# Altium footprint library SR PCB Library V01.PcbLib: 402 footprints (part 9 of 26)
Each footprint in its own frame and in the unit in brackets; x right, y up, seen from the top. Pads: shape width x height; smd on the part's side, far side on the other; paste and mask are expansions set on the pad; w line width, h text height; cw(c..) or ccw(c..) is an arc to the next point about the centre after c.
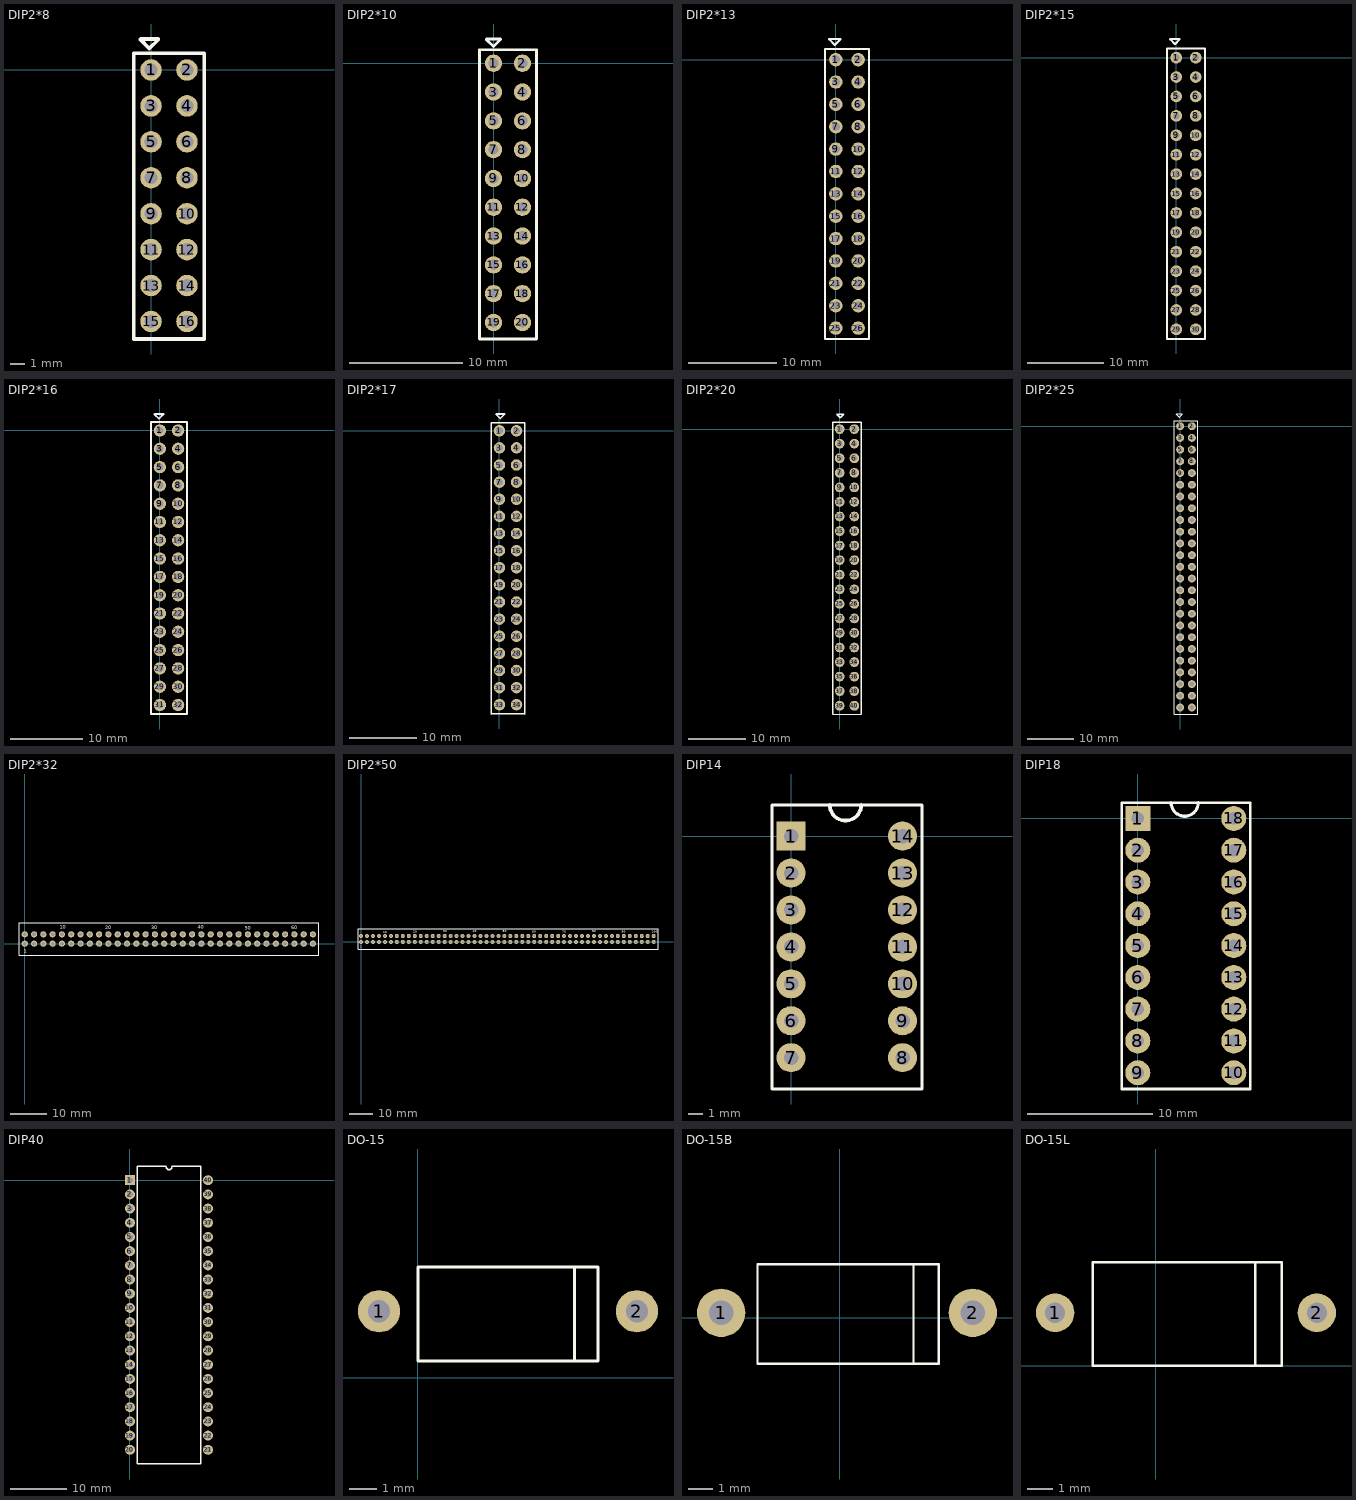
[diagram p8: the footprints below, top view; thin cyan lines are the x and y axes]

## DIP2*8 [mil]
pads (16):
  round 60 hole 35.43: 1(0,0) 2(100,0) 3(0,-100) 4(100,-100) 5(0,-200) 6(100,-200) 8(100,-300) 9(0,-400) 10(100,-400) 11(0,-500) 12(100,-500) 13(0,-600) 14(100,-600) 15(0,-700) 16(100,-700)
  round 60 hole 35.43 mask+4: 7(0,-300)
Top Overlay:
  lines w10: -48.43,-748.82 -48.43,46.85 148.43,46.85 148.43,-748.82 -48.43,-748.82 ; -29.53,84.65 -4.68,59.8 19.69,84.17 19.69,86.17 -28.01,86.17 -29.53,84.65

## DIP2*10 [mil]
pads (20):
  round 60 hole 35.43: 1(0,0) 2(100,0) 3(0,-100) 4(100,-100) 5(0,-200) 6(100,-200) 8(100,-300) 9(0,-400) 10(100,-400) 11(0,-500) 12(100,-500) 13(0,-600) 14(100,-600) 15(0,-700) 16(100,-700) 17(0,-800) 18(100,-800) 19(0,-900) 20(100,-900)
  round 60 hole 35.43 mask+4: 7(0,-300)
Top Overlay:
  lines w10: -48.43,-957.48 -48.43,46.85 148.43,46.85 148.43,-957.48 -48.43,-957.48 ; -25.59,82.68 -24.07,84.2 23.62,84.2 23.62,82.2 -0.75,57.83 -25.59,82.68

## DIP2*13 [mil]
pads (26):
  round 60 hole 35.43: 1(0,0) 2(100,0) 3(0,-100) 4(100,-100) 5(0,-200) 6(100,-200) 8(100,-300) 9(0,-400) 10(100,-400) 11(0,-500) 12(100,-500) 13(0,-600) 14(100,-600) 15(0,-700) 16(100,-700) 17(0,-800) 18(100,-800) 19(0,-900) 20(100,-900) 21(0,-1000) 22(100,-1000) 23(0,-1100) 24(100,-1100) 25(0,-1200) 26(100,-1200)
  round 60 hole 35.43 mask+4: 7(0,-300)
Top Overlay:
  lines w10: -48.43,-1248.82 -48.43,46.85 148.43,46.85 148.43,-1248.82 -48.43,-1248.82 ; -29.53,90.55 -28.01,92.07 19.69,92.07 19.69,90.08 -4.68,65.71 -29.53,90.55

## DIP2*15 [mil]
pads (30):
  round 60 hole 35.43: 1(0,0) 2(100,0) 3(0,-100) 4(100,-100) 5(0,-200) 6(100,-200) 8(100,-300) 9(0,-400) 10(100,-400) 11(0,-500) 12(100,-500) 13(0,-600) 14(100,-600) 15(0,-700) 16(100,-700) 17(0,-800) 18(100,-800) 19(0,-900) 20(100,-900) 21(0,-1000) 22(100,-1000) 23(0,-1100) 24(100,-1100) 25(0,-1200) 26(100,-1200) 27(0,-1300) 28(100,-1300) 29(0,-1400) 30(100,-1400)
  round 60 hole 35.43 mask+4: 7(0,-300)
Top Overlay:
  lines w10: -48.43,-1449.61 148.43,-1449.61 148.43,46.85 -48.43,46.85 -48.43,-1449.61 ; -31.5,94.49 -29.98,96.01 17.72,96.01 17.72,94.02 -6.65,69.65 -31.5,94.49

## DIP2*16 [mm]
pads (32):
  round 1.7 hole 1.016: 1(0,0) 2(2.54,0) 3(0,-2.54) 4(2.54,-2.54) 5(0,-5.08) 6(2.54,-5.08) 7(0,-7.62) 8(2.54,-7.62) 9(0,-10.16) 10(2.54,-10.16) 11(0,-12.7) 12(2.54,-12.7) 13(0,-15.24) 14(2.54,-15.24) 15(0,-17.78) 16(2.54,-17.78) 17(0,-20.32) 18(2.54,-20.32) 19(0,-22.86) 20(2.54,-22.86) 21(0,-25.4) 22(2.54,-25.4) 23(0,-27.94) 24(2.54,-27.94) 25(0,-30.48) 26(2.54,-30.48) 27(0,-33.02) 28(2.54,-33.02) 29(0,-35.56) 30(2.54,-35.56) 31(0,-38.1) 32(2.54,-38.1)
Top Overlay:
  lines w0.254: -1.23,-39.35 -1.23,1.2 3.77,1.2 3.77,-39.35 -1.23,-39.35 ; -0.75,2.25 -0.119,1.619 0.5,2.238 0.5,2.289 -0.711,2.289 -0.75,2.25

## DIP2*17 [mm]
pads (34):
  round 1.7 hole 1.016: 1(0,0) 2(2.54,0) 3(0,-2.54) 4(2.54,-2.54) 5(0,-5.08) 6(2.54,-5.08) 7(0,-7.62) 8(2.54,-7.62) 9(0,-10.16) 10(2.54,-10.16) 11(0,-12.7) 12(2.54,-12.7) 13(0,-15.24) 14(2.54,-15.24) 15(0,-17.78) 16(2.54,-17.78) 17(0,-20.32) 18(2.54,-20.32) 19(0,-22.86) 20(2.54,-22.86) 21(0,-25.4) 22(2.54,-25.4) 23(0,-27.94) 24(2.54,-27.94) 25(0,-30.48) 26(2.54,-30.48) 27(0,-33.02) 28(2.54,-33.02) 29(0,-35.56) 30(2.54,-35.56) 31(0,-38.1) 32(2.54,-38.1) 33(0,-40.64) 34(2.54,-40.64)
Top Overlay:
  lines w0.2: -1.23,-42.02 3.71,-42.02
  lines w0.254: -1.23,-42.02 -1.23,1.19 3.77,1.19 3.77,-42.02 ; -0.5,2.45 -0.461,2.489 0.75,2.489 0.75,2.438 0.131,1.819 -0.5,2.45

## DIP2*20 [mm]
pads (40):
  round 1.7 hole 1.016: 1(0,0) 2(2.54,0) 3(0,-2.54) 4(2.54,-2.54) 5(0,-5.08) 6(2.54,-5.08) 7(0,-7.62) 8(2.54,-7.62) 9(0,-10.16) 10(2.54,-10.16) 11(0,-12.7) 12(2.54,-12.7) 13(0,-15.24) 14(2.54,-15.24) 15(0,-17.78) 16(2.54,-17.78) 17(0,-20.32) 18(2.54,-20.32) 19(0,-22.86) 20(2.54,-22.86) 21(0,-25.4) 22(2.54,-25.4) 23(0,-27.94) 24(2.54,-27.94) 25(0,-30.48) 26(2.54,-30.48) 27(0,-33.02) 28(2.54,-33.02) 29(0,-35.56) 30(2.54,-35.56) 31(0,-38.1) 32(2.54,-38.1) 33(0,-40.64) 34(2.54,-40.64) 35(0,-43.18) 36(2.54,-43.18) 37(0,-45.72) 38(2.54,-45.72) 39(0,-48.26) 40(2.54,-48.26)
Top Overlay:
  lines w0.2: -1.23,-49.7 3.77,-49.7
  lines w0.254: -1.23,-49.7 -1.23,1.19 3.77,1.19 3.77,-49.7 ; -0.55,2.6 -0.511,2.639 0.7,2.639 0.7,2.588 0.081,1.969 -0.55,2.6

## DIP2*25 [mm]
pads (50):
  round 1.7 hole 1.016: 1(0,0) 2(2.54,0) 3(0,-2.54) 4(2.54,-2.54) 5(0,-5.08) 6(2.54,-5.08) 7(0,-7.62) 8(2.54,-7.62) 9(0,-10.16) 10(2.54,-10.16) 11(0,-12.7) 12(2.54,-12.7) 13(0,-15.24) 14(2.54,-15.24) 15(0,-17.78) 16(2.54,-17.78) 17(0,-20.32) 18(2.54,-20.32) 19(0,-22.86) 20(2.54,-22.86) 21(0,-25.4) 22(2.54,-25.4) 23(0,-27.94) 24(2.54,-27.94) 25(0,-30.48) 26(2.54,-30.48) 27(0,-33.02) 28(2.54,-33.02) 29(0,-35.56) 30(2.54,-35.56) 31(0,-38.1) 32(2.54,-38.1) 33(0,-40.64) 34(2.54,-40.64) 35(0,-43.18) 36(2.54,-43.18) 37(0,-45.72) 38(2.54,-45.72) 39(0,-48.26) 40(2.54,-48.26) 41(0,-50.8) 42(2.54,-50.8) 43(0,-53.34) 44(2.54,-53.34) 45(0,-55.88) 46(2.54,-55.88) 47(0,-58.42) 48(2.54,-58.42) 49(0,-60.96) 50(2.54,-60.96)
Top Overlay:
  lines w0.2: -1.23,-62.36 3.77,-62.36
  lines w0.254: -1.23,-62.36 -1.23,1.19 3.77,1.19 3.77,-62.36 ; -0.8,2.6 -0.761,2.639 0.45,2.639 0.45,2.588 -0.169,1.969 -0.8,2.6

## DIP2*32 [mm]
pads (64):
  round 1.7 hole 1.016: 1(0,0) 2(0,2.54) 3(2.54,0) 4(2.54,2.54) 5(5.08,0) 6(5.08,2.54) 7(7.62,0) 8(7.62,2.54) 9(10.16,0) 10(10.16,2.54) 11(12.7,0) 12(12.7,2.54) 13(15.24,0) 14(15.24,2.54) 15(17.78,0) 16(17.78,2.54) 17(20.32,0) 18(20.32,2.54) 19(22.86,0) 20(22.86,2.54) 21(25.4,0) 22(25.4,2.54) 23(27.94,0) 24(27.94,2.54) 25(30.48,0) 26(30.48,2.54) 27(33.02,0) 28(33.02,2.54) 29(35.56,0) 30(35.56,2.54) 31(38.1,0) 32(38.1,2.54) 33(40.64,0) 34(40.64,2.54) 35(43.18,0) 36(43.18,2.54) 37(45.72,0) 38(45.72,2.54) 39(48.26,0) 40(48.26,2.54) 41(50.8,0) 42(50.8,2.54) 43(53.34,0) 44(53.34,2.54) 45(55.88,0) 46(55.88,2.54) 47(58.42,0) 48(58.42,2.54) 49(60.96,0) 50(60.96,2.54) 51(63.5,0) 52(63.5,2.54) 53(66.04,0) 54(66.04,2.54) 55(68.58,0) 56(68.58,2.54) 57(71.12,0) 58(71.12,2.54) 59(73.66,0) 60(73.66,2.54) 61(76.2,0) 62(76.2,2.54) 63(78.74,0) 64(78.74,2.54)
Top Overlay:
  lines w0.2: -1.57,-3.124 -1.57,5.716 ; 80.39,-3.114 80.39,5.716
  lines w0.203: -1.57,5.716 80.39,5.716 ; -1.49,-3.174 36.826,-3.174 41.906,-3.174 80.39,-3.174 ; 17.776,5.716 20.316,5.716 ; 58.416,5.716 60.956,5.716
  text "60" at 72.77,3.98 h1
  text "1" at -0.27,-2.54 h1
  text "10" at 9.54,4.06 h1
  text "20" at 21.99,3.88 h1
  text "30" at 34.6,3.93 h1
  text "40" at 47.27,4.1 h1
  text "50" at 60.1,3.77 h1

## DIP2*50 [mm]
pads (100):
  round 1.7 hole 1.016: 1(0,0) 2(0,2.54) 3(2.54,0) 4(2.54,2.54) 5(5.08,0) 6(5.08,2.54) 7(7.62,0) 8(7.62,2.54) 9(10.16,0) 10(10.16,2.54) 11(12.7,0) 12(12.7,2.54) 13(15.24,0) 14(15.24,2.54) 15(17.78,0) 16(17.78,2.54) 17(20.32,0) 18(20.32,2.54) 19(22.86,0) 20(22.86,2.54) 21(25.4,0) 22(25.4,2.54) 23(27.94,0) 24(27.94,2.54) 25(30.48,0) 26(30.48,2.54) 27(33.02,0) 28(33.02,2.54) 29(35.56,0) 30(35.56,2.54) 31(38.1,0) 32(38.1,2.54) 33(40.64,0) 34(40.64,2.54) 35(43.18,0) 36(43.18,2.54) 37(45.72,0) 38(45.72,2.54) 39(48.26,0) 40(48.26,2.54) 41(50.8,0) 42(50.8,2.54) 43(53.34,0) 44(53.34,2.54) 45(55.88,0) 46(55.88,2.54) 47(58.42,0) 48(58.42,2.54) 49(60.96,0) 50(60.96,2.54) 51(63.5,0) 52(63.5,2.54) 53(66.04,0) 54(66.04,2.54) 55(68.58,0) 56(68.58,2.54) 57(71.12,0) 58(71.12,2.54) 59(73.66,0) 60(73.66,2.54) 61(76.2,0) 62(76.2,2.54) 63(78.74,0) 64(78.74,2.54) 65(81.28,0) 66(81.28,2.54) 67(83.82,0) 68(83.82,2.54) 69(86.36,0) 70(86.36,2.54) 71(88.9,0) 72(88.9,2.54) 73(91.44,0) 74(91.44,2.54) 75(93.98,0) 76(93.98,2.54) 77(96.52,0) 78(96.52,2.54) 79(99.06,0) 80(99.06,2.54) 81(101.6,0) 82(101.6,2.54) 83(104.14,0) 84(104.14,2.54) 85(106.68,0) 86(106.68,2.54) 87(109.22,0) 88(109.22,2.54) 89(111.76,0) 90(111.76,2.54) 91(114.3,0) 92(114.3,2.54) 93(116.84,0) 94(116.84,2.54) 95(119.38,0) 96(119.38,2.54) 97(121.92,0) 98(121.92,2.54) 99(124.46,0) 100(124.46,2.54)
Top Overlay:
  lines w0.2: -1.29,-3.144 -1.29,5.716 ; 89.43,5.71 126.29,5.71 126.29,-3.13 ; 89.5,-3.18 126.29,-3.18
  lines w0.203: -1.29,-3.144 36.826,-3.174 ; -1.29,5.716 89.658,5.716 ; 17.776,5.716 20.316,5.716 ; 36.89,-3.18 41.97,-3.18 ; 41.906,-3.174 89.629,-3.174 ; 58.416,5.716 60.956,5.716
  text "20" at 22.12,3.91 h1
  text "10" at 9.41,3.81 h1
  text "1" at -0.27,-2.54 h1
  text "30" at 34.91,4.11 h1
  text "40" at 47.48,4.18 h1
  text "50" at 60.24,4.04 h1
  text "60" at 72.8,3.91 h1
  text "70" at 85.66,3.94 h1
  text "80" at 98.35,4.07 h1
  text "90" at 110.88,3.94 h1
  text "100" at 123.61,3.91 h1

## DIP14 [mm]
pads (14):
  rect 2x2 hole 1: 1(0,0)
  round 2 hole 1: 2(0,-2.54) 3(0,-5.08) 4(0,-7.62) 5(0,-10.16) 6(0,-12.7) 7(0,-15.24) 8(7.67,-15.24) 9(7.67,-12.7) 10(7.67,-10.16) 11(7.67,-7.62) 12(7.67,-5.08) 13(7.67,-2.54) 14(7.67,0)
Top Overlay:
  lines w0.2: -1.3,-17.395 -1.3,2.155 9,2.155 9,-17.395 -1.3,-17.395
  lines w0.254: 2.66,2.155 ccw(c3.747,2.155) 4.834,2.155

## DIP18 [mm]
pads (18):
  rect 2x2 hole 1: 1(0,0)
  round 2 hole 1: 2(0,-2.54) 3(0,-5.08) 4(0,-7.62) 5(0,-10.16) 6(0,-12.7) 7(0,-15.24) 8(0,-17.78) 9(0,-20.32) 10(7.67,-20.32) 11(7.67,-17.78) 12(7.67,-15.24) 13(7.67,-12.7) 14(7.67,-10.16) 15(7.67,-7.62) 16(7.67,-5.08) 17(7.67,-2.54) 18(7.67,0)
Top Overlay:
  lines w0.2: -1.3,-21.62 -1.3,1.265 9,1.265 9,-21.62 -1.3,-21.62
  lines w0.254: 2.66,1.265 ccw(c3.747,1.265) 4.834,1.265

## DIP40 [mil]
pads (40):
  rect 70x70 hole 40: 1(0,0)
  round 70 hole 40: 2(0,-100) 3(0,-200) 4(0,-300) 5(0,-400) 6(0,-500) 7(0,-600) 8(0,-700) 9(0,-800) 10(0,-900) 11(0,-1000) 12(0,-1100) 13(0,-1200) 14(0,-1300) 15(0,-1400) 16(0,-1500) 17(0,-1600) 18(0,-1700) 19(0,-1800) 20(0,-1900) 21(550,-1900) 22(550,-1800) 23(550,-1700) 24(550,-1600) 25(550,-1500) 26(550,-1400) 27(550,-1300) 28(550,-1200) 29(550,-1100) 30(550,-1000) 31(550,-900) 32(550,-800) 33(550,-700) 34(550,-600) 35(550,-500) 36(550,-400) 37(550,-300) 38(550,-200) 39(550,-100) 40(550,0)
Top Overlay:
  lines w10: 255.91,94.49 ccw(c275.59,94.49) 295.28,94.49 ; 255.91,98.43 51.18,98.43 51.18,-2000 500,-2000 500,98.43 295.28,98.43

## DO-15 [mm]
pads (2):
  round 1.524 hole 0.8: 1(-1.4,2.4) 2(7.9,2.4)
Top Overlay:
  lines w0.1: 5.65,0.6 5.65,4 ; 0,0.6 0,4 6.5,4 6.5,0.6 0,0.6

## DO-15B [mm]
pads (2):
  round 2 hole 1: 1(-4.9,0.2) 2(5.5,0.2)
Top Overlay:
  lines w0.1: 3.05,-1.9 3.05,2.2 ; -3.4,-1.9 -3.4,2.2 4.1,2.2 4.1,-1.9 -3.4,-1.9

## DO-15L [mm]
pads (2):
  oval 1.523x1.524 hole 0.8: 1(-4,2.1)
  round 1.524 hole 0.8: 2(6.4,2.1)
Top Overlay:
  lines w0.1: 3.95,0 3.95,4.1 ; -2.5,0 -2.5,4.1 5,4.1 5,0 -2.5,0